# Altium footprint library NEO-6.PcbLib: 1 footprints
Each footprint in its own frame and in the unit in brackets; x right, y up, seen from the top. Pads: shape width x height; smd on the part's side, far side on the other; paste and mask are expansions set on the pad; w line width, h text height; cw(c..) or ccw(c..) is an arc to the next point about the centre after c.
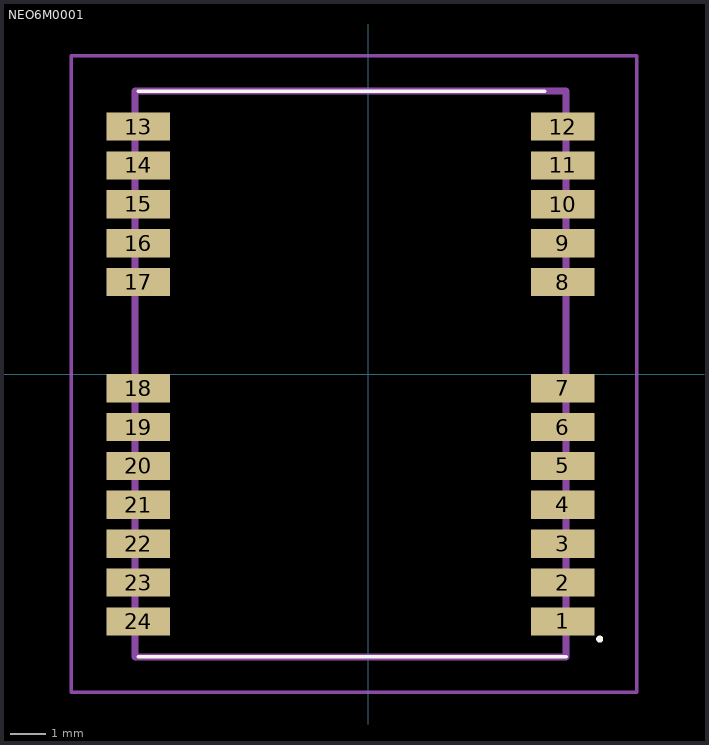
[diagram p0: the footprint, top view; thin cyan lines are the x and y axes]

## NEO6M0001 [mm]
pads (24):
  rect 1.8x0.8 smd: 1(5.5,-7) 2(5.5,-5.9) 3(5.5,-4.8) 4(5.5,-3.7) 5(5.5,-2.6) 6(5.5,-1.5) 7(5.5,-0.4) 8(5.5,2.6) 9(5.5,3.7) 10(5.5,4.8) 11(5.5,5.9) 12(5.5,7) 13(-6.5,7) 14(-6.5,5.9) 15(-6.5,4.8) 16(-6.5,3.7) 17(-6.5,2.6) 18(-6.5,-0.4) 19(-6.5,-1.5) 20(-6.5,-2.6) 21(-6.5,-3.7) 22(-6.5,-4.8) 23(-6.5,-5.9) 24(-6.5,-7)
Top Overlay:
  lines w0.1: -6.5,-8 5.6,-8 ; -6.5,8 5,8 ; 6.5,-7.5 ccw(c6.55,-7.5) 6.6,-7.5 ccw(c6.55,-7.5) 6.5,-7.5
Mechanical 13:
  lines w0.2: -6.6,-8 5.6,-8 5.6,8 -6.6,8 -6.6,-8
Mechanical 15:
  lines w0.1: -8.4,-9 7.6,-9 7.6,9 -8.4,9 -8.4,-9
3D body "NEO-6M-0-001.stp": height 2.64, standoff 0, extent -6.55,-8.3 5.75,8.3